# EAGLE library part MEGA8L-DEV (library ATMEga-8)
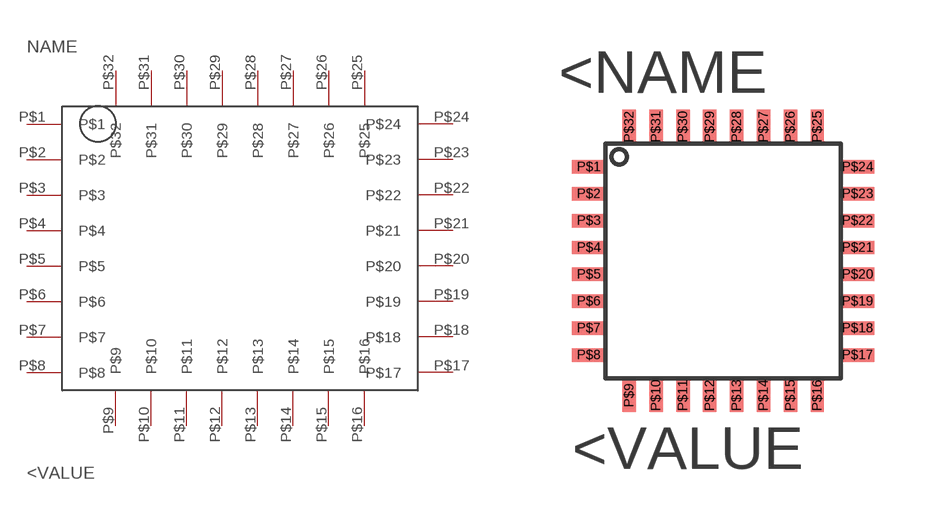
[diagram p0: symbol with the pads of TQPL-MEGA8L; footprint TQPL-MEGA8L]

Designator prefix -

## MEGA8L-DEV  [TQPL-MEGA8L]
P$1  P$1
P$2  P$2
P$3  P$3
P$4  P$4
P$5  P$5
P$6  P$6
P$7  P$7
P$8  P$8
P$9  P$9
P$10  P$10
P$11  P$11
P$12  P$12
P$13  P$13
P$14  P$14
P$15  P$15
P$16  P$16
P$17  P$17
P$18  P$18
P$19  P$19
P$20  P$20
P$21  P$21
P$22  P$22
P$23  P$23
P$24  P$24
P$25  P$25
P$26  P$26
P$27  P$27
P$28  P$28
P$29  P$29
P$30  P$30
P$31  P$31
P$32  P$32

## Footprint TQPL-MEGA8L (pad centres in mm)
smd 1 x 0.4: P$1 -3.8,2.8; P$2 -3.8,2; P$3 -3.8,1.2; P$4 -3.8,0.4; P$5 -3.8,-0.4; P$6 -3.8,-1.2; P$7 -3.8,-2; P$8 -3.8,-2.8; P$17 4.2,-2.8; P$18 4.2,-2; P$19 4.2,-1.2; P$20 4.2,-0.4; P$21 4.2,0.4; P$22 4.2,1.2; P$23 4.2,2; P$24 4.2,2.8
smd 0.4 x 1: P$9 -2.6,-4; P$10 -1.8,-4; P$11 -1,-4; P$12 -0.2,-4; P$13 0.6,-4; P$14 1.4,-4; P$15 2.2,-4; P$16 3,-4; P$25 3,4; P$26 2.2,4; P$27 1.4,4; P$28 0.6,4; P$29 -0.2,4; P$30 -1,4; P$31 -1.8,4; P$32 -2.6,4